# Altium footprint library Diode_TVS_Pcb.PcbLib: 8 footprints
Each footprint in its own frame and in the unit in brackets; x right, y up, seen from the top. Pads: shape width x height; smd on the part's side, far side on the other; paste and mask are expansions set on the pad; w line width, h text height; cw(c..) or ccw(c..) is an arc to the next point about the centre after c.
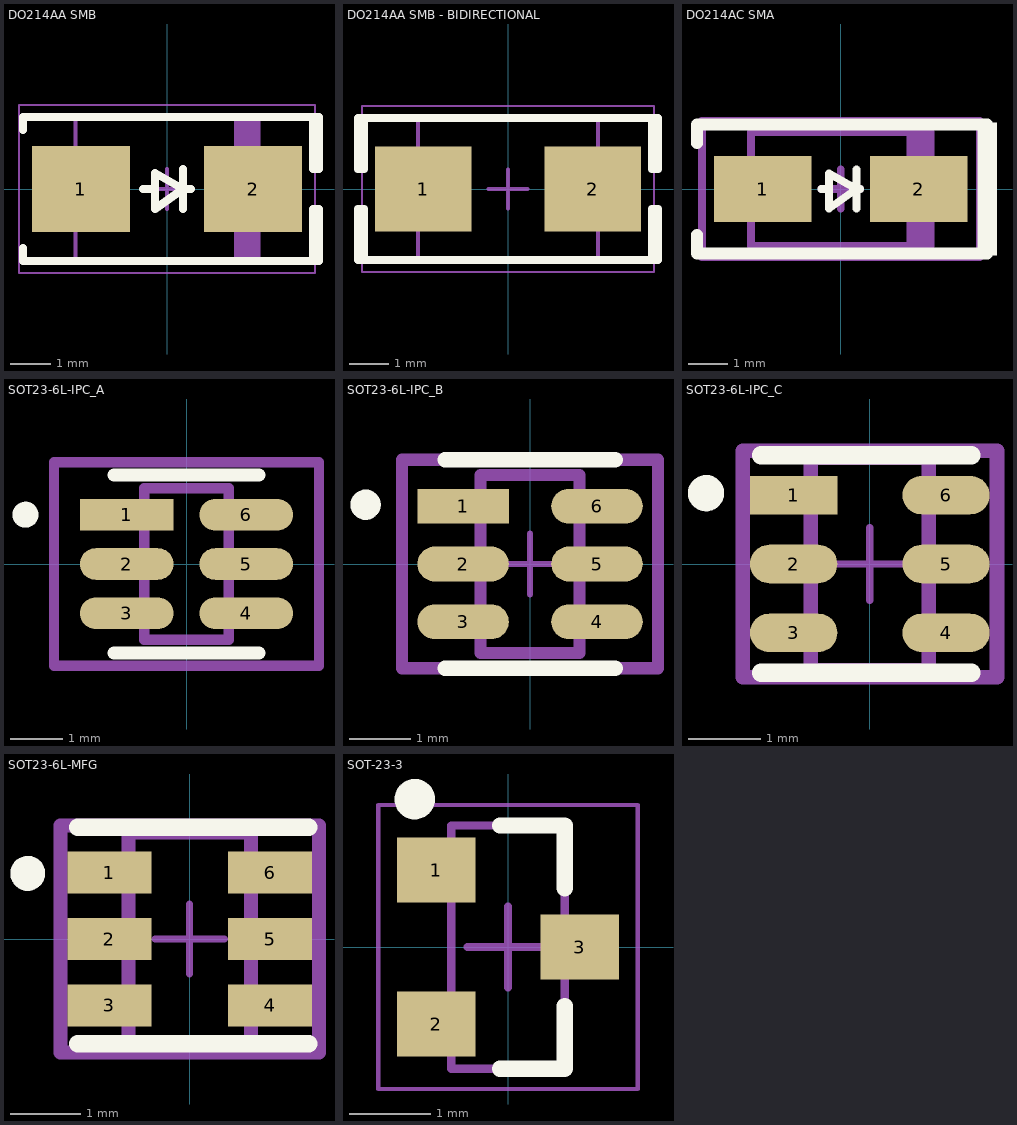
[diagram p0: the footprints below, top view; thin cyan lines are the x and y axes]

## DO214AA SMB [mm] "Molded Diode, 2-Leads, Body 4.31x3.62mm, IPC Medium Density"
height 2.44
pads (2):
  rect 2.45x2.15 smd: 1(-2.15,0) 2(2.15,0)
Top Overlay:
  lines w0.2: -3.6,-1.475 -3.6,-1.8 3.8,-1.8 3.8,-0.5 3.65,-0.5 3.65,-1.8 ; -3.6,1.475 -3.6,1.8 3.8,1.8 3.8,0.5 3.65,0.5 3.65,1.8 ; -0.6,0 -0.3,0 ; 0.4,-0.5 0.4,0.5 ; 0.6,0 0.4,0 ; 0.4,0 -0.3,0.4 -0.3,-0.5 0.4,0
Mechanical 13:
  rectangle: 1.67,-1.8 2.285,1.8
  lines w0.1: -2.285,-1.8 2.285,-1.8 2.285,1.8 -2.285,1.8 -2.285,-1.8
Mechanical 15:
  lines w0.05: -3.7,-2.1 3.7,-2.1 3.7,2.1 -3.7,2.1 -3.7,-2.1
  lines w0.1: -0.5,0 0.5,0 ; 0,-0.5 0,0.5
3D body "SMB.STEP": height 2.4, standoff 0, extent -2.6,-1.799 2.6,1.8

## DO214AA SMB - BIDIRECTIONAL [mm] "Molded Diode, 2-Leads, Body 4.31x3.62mm, IPC Medium Density"
height 2.44
pads (2):
  rect 2.45x2.15 smd: 1(-2.15,0) 2(2.15,0)
Top Overlay:
  lines w0.2: -3.65,-1.8 -3.65,-0.5 -3.8,-0.5 -3.8,-1.8 3.8,-1.8 3.8,-0.5 3.65,-0.5 3.65,-1.8 ; -3.65,1.8 -3.65,0.5 -3.8,0.5 -3.8,1.8 3.8,1.8 3.8,0.5 3.65,0.5 3.65,1.8
Mechanical 13:
  lines w0.1: -2.285,-1.8 2.285,-1.8 2.285,1.8 -2.285,1.8 -2.285,-1.8
Mechanical 15:
  lines w0.05: -3.7,-2.1 3.7,-2.1 3.7,2.1 -3.7,2.1 -3.7,-2.1
  lines w0.1: -0.5,0 0.5,0 ; 0,-0.5 0,0.5
3D body "SMB.STEP": height 2.4, standoff 0, extent -2.6,-1.799 2.6,1.8

## DO214AC SMA [mm] "Molded Diode, 2-Leads, Body 4.30x2.60mm, IPC Medium Density"
height 2.4
pads (2):
  rect 2.5x1.7 smd: 1(-2,0) 2(2,0)
Top Overlay:
  rectangle: 3.5,-1.7 4,1.7
  lines w0.2: -0.5,0 -0.3,0 ; 0.4,-0.5 0.4,0.5 ; 0.5,0 0.4,0 ; 0.4,0 -0.3,-0.5 -0.3,0.4 0.4,0
  lines w0.3: -3.683,-1.175 -3.683,-1.651 3.75,-1.651 ; -3.683,1.175 -3.683,1.651 3.75,1.651
Mechanical 13:
  rectangle: 1.681,-1.46 2.3,1.46
  lines w0.2: -2.3,-1.46 2.3,-1.46 2.3,1.46 -2.3,1.46 -2.3,-1.46
Mechanical 15:
  lines w0.2: -0.5,0 0.5,0 ; 0,-0.5 0,0.5 ; -3.556,-1.75 3.556,-1.75 3.556,1.75 -3.556,1.75 -3.556,-1.75
3D body "SMA.STEP": height 2.4, standoff 0, extent -2.6,-1.375 2.6,1.375

## SOT23-6L-IPC_A [mm]
pads (6):
  rect 1.805x0.612 smd paste+0 mask+0: 1(-1.15,0.95)
  rrect100% 1.805x0.612 smd paste+0 mask+0: 2(-1.15,0) 3(-1.15,-0.95) 4(1.15,-0.95) 5(1.15,0) 6(1.15,0.95)
Top Overlay:
  circle w0.25: c-3.103,0.95 r0.125
  lines w0.25: -1.4,-1.713 1.4,-1.713 ; -1.4,1.713 1.4,1.713
Mechanical 5:
  lines w0.2: -2.553,-1.963 2.553,-1.963 2.553,1.963 -2.553,1.963 -2.553,-1.963
  text ".Designator" at 0,0.188 h1
Mechanical 13:
  lines w0.2: -0.813,-1.462 0.813,-1.462 0.813,1.462 -0.813,1.462 -0.813,-1.462
Mechanical 15:
  lines w0.2: -2.553,-1.963 2.553,-1.963 2.553,1.963 -2.553,1.963 -2.553,-1.963
3D body "Diode_STMicroelectronics_USBLC6-4SC6Y_eec.STEP": height 0.25, standoff 0, extent -1.962,-2.553 1.963,2.553

## SOT23-6L-IPC_B [mm]
pads (6):
  rect 1.505x0.572 smd paste+0 mask+0: 1(-1.1,0.95)
  rrect100% 1.505x0.572 smd paste+0 mask+0: 2(-1.1,0) 3(-1.1,-0.95) 4(1.1,-0.95) 5(1.1,0) 6(1.1,0.95)
Top Overlay:
  circle w0.25: c-2.703,0.975 r0.125
  lines w0.25: -1.4,-1.713 1.4,-1.713 ; -1.4,1.713 1.4,1.713
Mechanical 5:
  lines w0.2: -2.103,-1.713 -2.103,1.713 2.103,1.713 2.103,-1.713 -2.103,-1.713
  text ".Designator" at 0,0.188 h1
Mechanical 13:
  lines w0.2: -0.813,-1.462 -0.813,1.462 0.813,1.462 0.813,-1.462 -0.813,-1.462
Mechanical 15:
  lines w0.2: -2.103,-1.713 -2.103,1.713 2.103,1.713 2.103,-1.713 -2.103,-1.713
Mechanical 16:
  lines w0.1: -0.5,0 0.5,0 ; 0,-0.5 0,0.5
3D body "Diode_STMicroelectronics_USBLC6-4SC6Y_eec.STEP": height 0.25, standoff 0, extent -1.712,-2.103 1.713,2.103

## SOT23-6L-IPC_C [mm]
pads (6):
  rect 1.205x0.532 smd paste+0 mask+0: 1(-1.05,0.95)
  rrect100% 1.205x0.532 smd paste+0 mask+0: 2(-1.05,0) 3(-1.05,-0.95) 4(1.05,-0.95) 5(1.05,0) 6(1.05,0.95)
Top Overlay:
  circle w0.25: c-2.259,0.977 r0.125
  lines w0.25: -1.5,-1.5 1.4,-1.5 ; -1.5,1.5 1.4,1.5
Mechanical 5:
  lines w0.2: -1.753,-1.562 1.753,-1.562 1.753,1.562 -1.753,1.562 -1.753,-1.562
  text ".Designator" at 0,0.188 h1
Mechanical 13:
  lines w0.2: -0.813,-1.462 0.813,-1.462 0.813,1.462 -0.813,1.462 -0.813,-1.462
Mechanical 15:
  lines w0.2: -1.753,-1.562 1.753,-1.562 1.753,1.562 -1.753,1.562 -1.753,-1.562
Mechanical 16:
  lines w0.1: -0.5,0 0.5,0 ; 0,-0.5 0,0.5
3D body "Diode_STMicroelectronics_USBLC6-4SC6Y_eec.STEP": height 0.25, standoff 0, extent -1.562,-1.753 1.563,1.753

## SOT23-6L-MFG [mm]
pads (6):
  rect 1.2x0.6 smd paste+0 mask+0: 1(-1.15,0.95) 2(-1.15,0) 3(-1.15,-0.95) 4(1.15,-0.95) 5(1.15,0) 6(1.15,0.95)
Top Overlay:
  circle w0.25: c-2.318,0.939 r0.125
  lines w0.25: -1.6,-1.5 1.7,-1.5 ; -1.6,1.6 1.7,1.6
Mechanical 5:
  lines w0.2: -1.85,-1.625 -1.85,1.625 1.85,1.625 1.85,-1.625 -1.85,-1.625
  text ".Designator" at 0,0.188 h1
Mechanical 13:
  lines w0.2: -0.875,-1.525 -0.875,1.525 0.875,1.525 0.875,-1.525 -0.875,-1.525
Mechanical 15:
  lines w0.2: -1.85,-1.625 -1.85,1.625 1.85,1.625 1.85,-1.625 -1.85,-1.625
Mechanical 16:
  lines w0.1: -0.5,0 0.5,0 ; 0,-0.5 0,0.5
3D body "Diode_STMicroelectronics_USBLC6-4SC6Y_eec.STEP": height 0.25, standoff 0, extent -1.625,-1.85 1.625,1.85

## SOT-23-3 [mm] "SOT23, 3-Leads, Body 2.90x2.40mm, Pitch 0.95mm, IPC Medium Density"
height 1.35
pads (3):
  rect 0.972x0.802 smd: 1(-0.885,0.95) 2(-0.885,-0.95) 3(0.885,0)
Top Overlay:
  circle w0.25: c-1.15,1.825 r0.125
  lines w0.2: -0.1,-1.5 0.7,-1.5 0.7,-0.725 ; -0.1,1.5 0.7,1.5 0.7,0.725
Mechanical 13:
  lines w0.1: -0.7,-1.5 -0.7,1.5 0.7,1.5 0.7,-1.5 -0.7,-1.5
Mechanical 15:
  lines w0.05: -1.6,-1.75 -1.6,1.75 1.6,1.75 1.6,-1.75 -1.6,-1.75
  lines w0.1: -0.5,0 0.5,0 ; 0,-0.5 0,0.5
3D body "sot-23-3-infineon.STEP": height 1, standoff 0, extent -1.16,-1.45 1.16,1.45